# EAGLE library part 61001821121 (library Wurth_Elektronik2)
WR-PHD 2.54mm Dual SMT Pin Header, 18 Pins =>Code : Con_BTB_PHD_2.54_2_61001821121 <http://katalog.we-online.de/media/images/eican/Con_BTB_PHD_2.54_2_6100xx21121_pf2.jpg> Details see: http://katalog.we-online.de/en/em/610_0xx_211_21 Created 2014-05-29, Karrer Zheng 2014 (C) Würth Elektronik
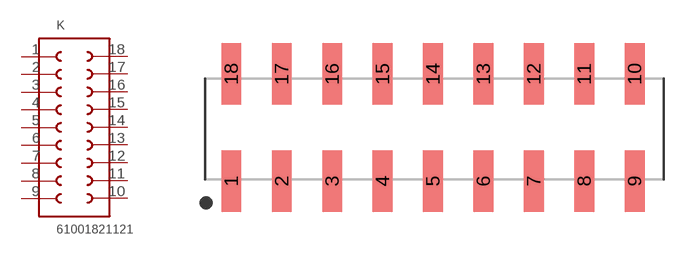
[diagram p79: symbol with the pads of 61001821121; footprint 61001821121]

Designator prefix K

## 61001821121  [61001821121]
1  1  pas
2  2  pas
3  3  pas
4  4  pas
5  5  pas
6  6  pas
7  7  pas
8  8  pas
9  9  pas
10  10  pas
11  11  pas
12  12  pas
13  13  pas
14  14  pas
15  15  pas
16  16  pas
17  17  pas
18  18  pas

## Footprint 61001821121 (pad centres in mm)
WR-PHD 2.54mm Dual SMT Pin Header, 18 Pins
smd 1 x 3.1: 1 -10.16,-2.7; 2 -7.62,-2.7; 3 -5.08,-2.7; 4 -2.54,-2.7; 5 0,-2.7; 6 2.54,-2.7; 7 5.08,-2.7; 8 7.62,-2.7; 9 10.16,-2.7; 10 10.16,2.7; 11 7.62,2.7; 12 5.08,2.7; 13 2.54,2.7; 14 0,2.7; 15 -2.54,2.7; 16 -5.08,2.7; 17 -7.62,2.7; 18 -10.16,2.7